# Altium footprint library NSC Audio.PcbLib: 147 footprints (part 7 of 10)
Each footprint in its own frame and in the unit in brackets; x right, y up, seen from the top. Pads: shape width x height; smd on the part's side, far side on the other; paste and mask are expansions set on the pad; w line width, h text height; cw(c..) or ccw(c..) is an arc to the next point about the centre after c.
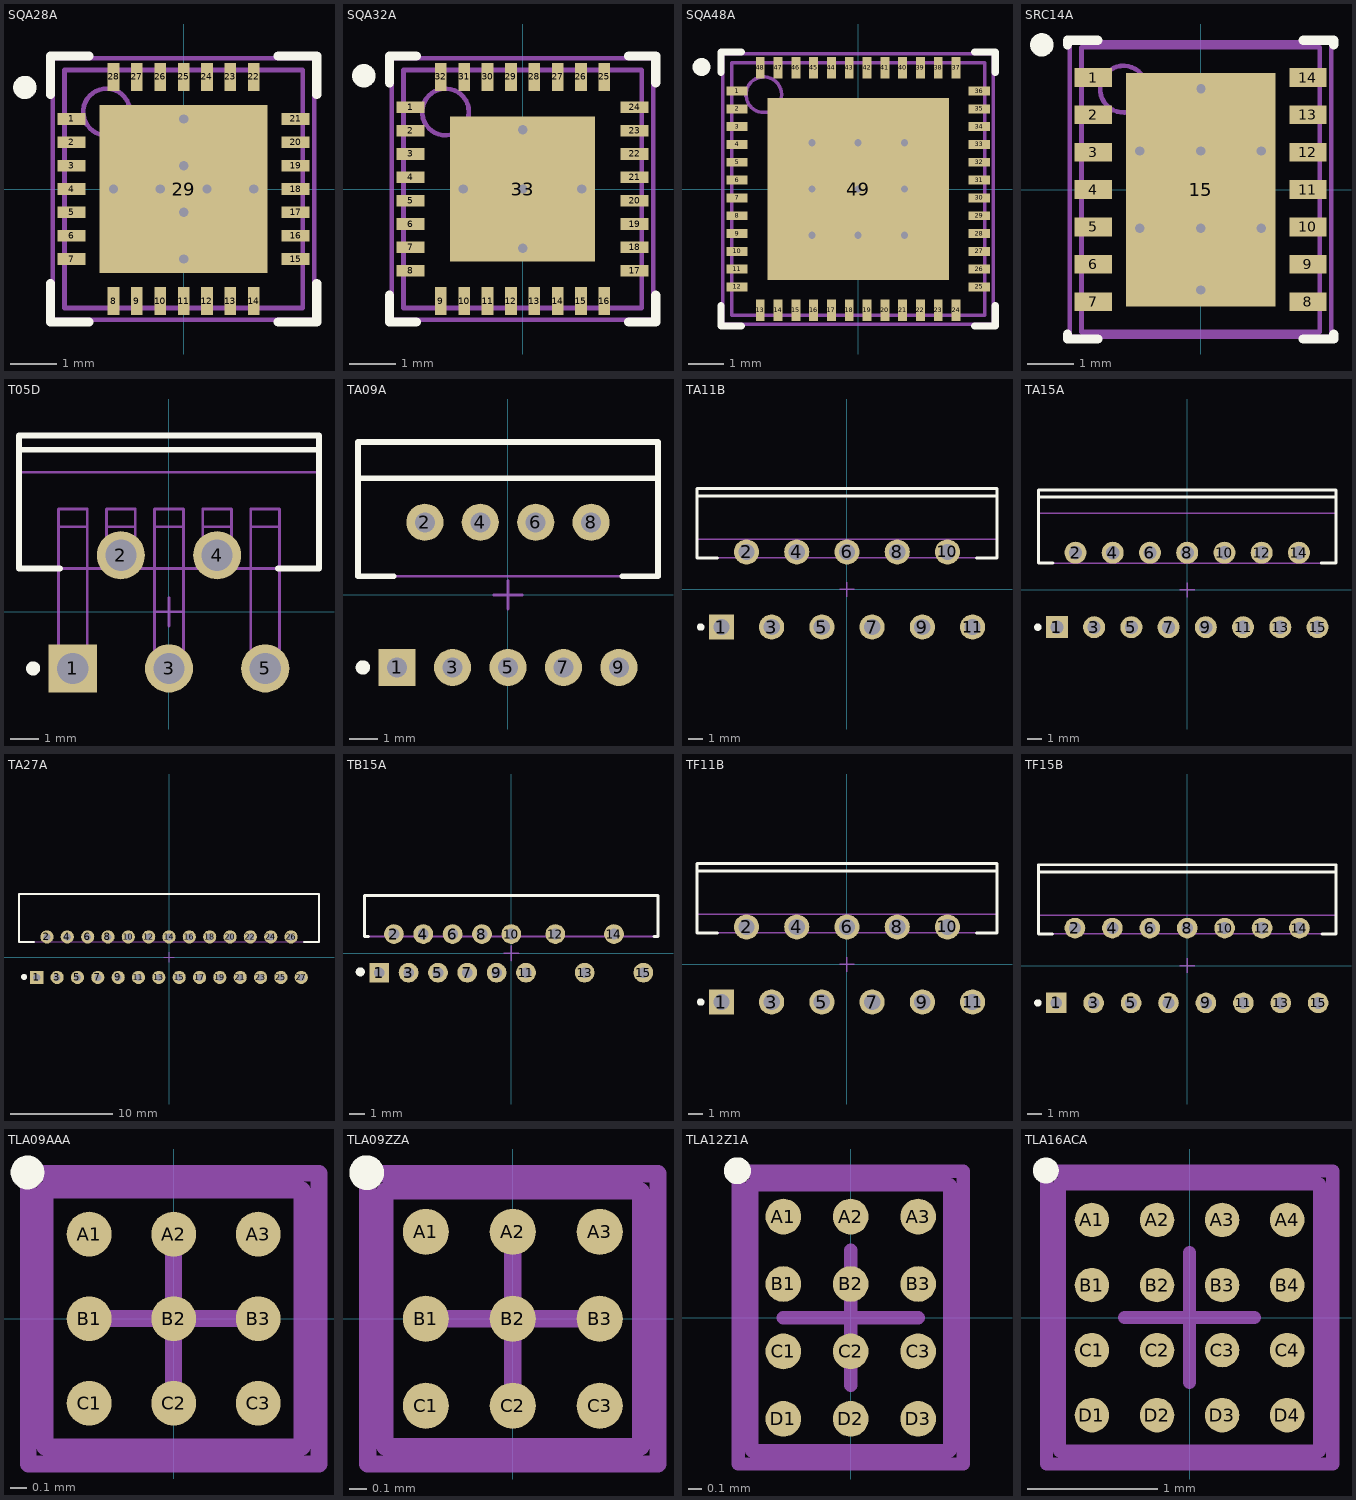
[diagram p6: the footprints below, top view; thin cyan lines are the x and y axes]

## SQA28A [mm] "QFN, 28-Leads, Body 5x5mm, Pitch 0.5mm, NSC Recommended"
height 0.8
pads (29):
  rect 0.6x0.25 smd paste-0.125 mask+0.051: 1(-2.4,1.5) 2(-2.4,1) 3(-2.4,0.5) 4(-2.4,0) 5(-2.4,-0.5) 6(-2.4,-1) 7(-2.4,-1.5) 15(2.4,-1.5) 16(2.4,-1) 17(2.4,-0.5) 18(2.4,0) 19(2.4,0.5) 20(2.4,1) 21(2.4,1.5)
  rect 0.25x0.6 smd paste-0.125 mask+0.051: 8(-1.5,-2.4) 9(-1,-2.4) 10(-0.5,-2.4) 11(0,-2.4) 12(0.5,-2.4) 13(1,-2.4) 14(1.5,-2.4) 22(1.5,2.4) 23(1,2.4) 24(0.5,2.4) 25(0,2.4) 26(-0.5,2.4) 27(-1,2.4) 28(-1.5,2.4)
  rect 3.6x3.6 smd paste-1.8 mask+0.051: 29(0,0)
via -1.5,0 diameter 0.5 hole 0.2
via 0,-1.5 diameter 0.5 hole 0.2
via 0,1.5 diameter 0.5 hole 0.2
via 1.5,0 diameter 0.5 hole 0.2
via -0.5,0 diameter 0.5 hole 0.2
via 0.5,0 diameter 0.5 hole 0.2
via 0,-0.5 diameter 0.5 hole 0.2
via 0,0.5 diameter 0.5 hole 0.2
Top Overlay:
  circle w0.25: c-3.4,2.175 r0.125
  lines w0.2: -2.85,-2.025 -2.85,-2.85 -2.025,-2.85 ; -2.85,2.025 -2.85,2.85 -2.025,2.85 ; 2.025,-2.85 2.85,-2.85 2.85,-2.025 ; 2.025,2.85 2.85,2.85 2.85,2.025
Top Paste:
  rectangle: 0.15,-1.7 1.7,-0.15
  region: -0.15,-0.15 -1.7,-0.15 -1.7,-1.7 -0.15,-1.7
  region: -0.15,1.7 -1.7,1.7 -1.7,0.15 -0.15,0.15
  rectangle: 0.15,0.15 1.7,1.7
  region: -1.375,-2.9 -1.375,-2.2 -1.625,-2.2 -1.625,-2.9
  region: -0.875,-2.9 -0.875,-2.2 -1.125,-2.2 -1.125,-2.9
  region: -0.375,-2.9 -0.375,-2.2 -0.625,-2.2 -0.625,-2.9
  region: 0.125,-2.9 0.125,-2.2 -0.125,-2.2 -0.125,-2.9
  region: 0.625,-2.9 0.625,-2.2 0.375,-2.2 0.375,-2.9
  region: 1.125,-2.9 1.125,-2.2 0.875,-2.2 0.875,-2.9
  region: 1.625,-2.9 1.625,-2.2 1.375,-2.2 1.375,-2.9
  region: -1.625,2.9 -1.625,2.2 -1.375,2.2 -1.375,2.9
  region: -1.125,2.9 -1.125,2.2 -0.875,2.2 -0.875,2.9
  region: -0.625,2.9 -0.625,2.2 -0.375,2.2 -0.375,2.9
  region: -0.125,2.9 -0.125,2.2 0.125,2.2 0.125,2.9
  region: 0.375,2.9 0.375,2.2 0.625,2.2 0.625,2.9
  region: 0.875,2.9 0.875,2.2 1.125,2.2 1.125,2.9
  region: 1.375,2.9 1.375,2.2 1.625,2.2 1.625,2.9
  region: 2.9,1.625 2.2,1.625 2.2,1.375 2.9,1.375
  region: 2.9,1.125 2.2,1.125 2.2,0.875 2.9,0.875
  region: 2.9,0.625 2.2,0.625 2.2,0.375 2.9,0.375
  region: 2.9,0.125 2.2,0.125 2.2,-0.125 2.9,-0.125
  region: 2.9,-0.375 2.2,-0.375 2.2,-0.625 2.9,-0.625
  region: 2.9,-0.875 2.2,-0.875 2.2,-1.125 2.9,-1.125
  region: 2.9,-1.375 2.2,-1.375 2.2,-1.625 2.9,-1.625
  rectangle: -2.9,-1.625 -2.2,-1.375
  rectangle: -2.9,-1.125 -2.2,-0.875
  rectangle: -2.9,-0.625 -2.2,-0.375
  rectangle: -2.9,-0.125 -2.2,0.125
  rectangle: -2.9,0.375 -2.2,0.625
  rectangle: -2.9,0.875 -2.2,1.125
  rectangle: -2.9,1.375 -2.2,1.625
Mechanical 13:
  circle w0.1: c-1.65,1.65 r0.5
  lines w0.1: -2.55,-2.55 -2.55,2.55 2.55,2.55 2.55,-2.55 -2.55,-2.55
Mechanical 15:
  lines w0.1: -0.5,0 0.5,0 ; 0,-0.5 0,0.5 ; -2.8,-2.8 -2.8,2.8 2.8,2.8 2.8,-2.8 -2.8,-2.8
3D body: height 0.8, standoff 0, extent -2.55,-2.55 2.55,2.55

## SQA32A [mm] "QFN, 32-Leads, Body 5x5mm, Pitch 0.5mm, NSC Recommended"
height 0.8
pads (33):
  rect 0.6x0.25 smd paste-0.125 mask+0.051: 1(-2.4,1.75) 2(-2.4,1.25) 3(-2.4,0.75) 4(-2.4,0.25) 5(-2.4,-0.25) 6(-2.4,-0.75) 7(-2.4,-1.25) 8(-2.4,-1.75) 17(2.4,-1.75) 18(2.4,-1.25) 19(2.4,-0.75) 20(2.4,-0.25) 21(2.4,0.25) 22(2.4,0.75) 23(2.4,1.25) 24(2.4,1.75)
  rect 0.25x0.6 smd paste-0.125 mask+0.051: 9(-1.75,-2.4) 10(-1.25,-2.4) 11(-0.75,-2.4) 12(-0.25,-2.4) 13(0.25,-2.4) 14(0.75,-2.4) 15(1.25,-2.4) 16(1.75,-2.4) 25(1.75,2.4) 26(1.25,2.4) 27(0.75,2.4) 28(0.25,2.4) 29(-0.25,2.4) 30(-0.75,2.4) 31(-1.25,2.4) 32(-1.75,2.4)
  rect 3.1x3.1 smd paste-1.55 mask+0.051: 33(0,0)
via 0,1.27 diameter 0.5 hole 0.2
via -1.27,0 diameter 0.5 hole 0.2
via 0,0 diameter 0.5 hole 0.2
via 1.27,0 diameter 0.5 hole 0.2
via 0,-1.27 diameter 0.5 hole 0.2
Top Overlay:
  circle w0.25: c-3.4,2.425 r0.125
  lines w0.2: -2.85,-2.275 -2.85,-2.85 -2.275,-2.85 ; -2.85,2.275 -2.85,2.85 -2.275,2.85 ; 2.275,-2.85 2.85,-2.85 2.85,-2.275 ; 2.275,2.85 2.85,2.85 2.85,2.275
Top Paste:
  region: 1.625,2.9 1.625,2.2 1.875,2.2 1.875,2.9
  region: 1.125,2.9 1.125,2.2 1.375,2.2 1.375,2.9
  region: 0.625,2.9 0.625,2.2 0.875,2.2 0.875,2.9
  region: 0.125,2.9 0.125,2.2 0.375,2.2 0.375,2.9
  region: -0.375,2.9 -0.375,2.2 -0.125,2.2 -0.125,2.9
  region: -0.875,2.9 -0.875,2.2 -0.625,2.2 -0.625,2.9
  region: -1.375,2.9 -1.375,2.2 -1.125,2.2 -1.125,2.9
  region: -1.875,2.9 -1.875,2.2 -1.625,2.2 -1.625,2.9
  region: 2.9,-1.625 2.2,-1.625 2.2,-1.875 2.9,-1.875
  region: 2.9,-1.125 2.2,-1.125 2.2,-1.375 2.9,-1.375
  region: 2.9,-0.625 2.2,-0.625 2.2,-0.875 2.9,-0.875
  region: 2.9,-0.125 2.2,-0.125 2.2,-0.375 2.9,-0.375
  region: 2.9,0.375 2.2,0.375 2.2,0.125 2.9,0.125
  region: 2.9,0.875 2.2,0.875 2.2,0.625 2.9,0.625
  region: 2.9,1.375 2.2,1.375 2.2,1.125 2.9,1.125
  region: 2.9,1.875 2.2,1.875 2.2,1.625 2.9,1.625
  region: -1.625,-2.9 -1.625,-2.2 -1.875,-2.2 -1.875,-2.9
  region: -1.125,-2.9 -1.125,-2.2 -1.375,-2.2 -1.375,-2.9
  region: -0.625,-2.9 -0.625,-2.2 -0.875,-2.2 -0.875,-2.9
  region: -0.125,-2.9 -0.125,-2.2 -0.375,-2.2 -0.375,-2.9
  region: 0.375,-2.9 0.375,-2.2 0.125,-2.2 0.125,-2.9
  region: 0.875,-2.9 0.875,-2.2 0.625,-2.2 0.625,-2.9
  region: 1.375,-2.9 1.375,-2.2 1.125,-2.2 1.125,-2.9
  region: 1.875,-2.9 1.875,-2.2 1.625,-2.2 1.625,-2.9
  rectangle: -2.9,-1.875 -2.2,-1.625
  rectangle: -2.9,-1.375 -2.2,-1.125
  rectangle: -2.9,-0.875 -2.2,-0.625
  rectangle: -2.9,-0.375 -2.2,-0.125
  rectangle: -2.9,0.125 -2.2,0.375
  rectangle: -2.9,0.625 -2.2,0.875
  rectangle: -2.9,1.125 -2.2,1.375
  rectangle: -2.9,1.625 -2.2,1.875
  rectangle: 0.1,0.1 1.4,1.4
  region: -0.1,1.4 -1.4,1.4 -1.4,0.1 -0.1,0.1
  region: -0.1,-0.1 -1.4,-0.1 -1.4,-1.4 -0.1,-1.4
  rectangle: 0.1,-1.4 1.4,-0.1
Mechanical 13:
  circle w0.1: c-1.65,1.65 r0.5
  lines w0.1: -2.55,-2.55 -2.55,2.55 2.55,2.55 2.55,-2.55 -2.55,-2.55
Mechanical 15:
  lines w0.1: -0.5,0 0.5,0 ; 0,-0.5 0,0.5 ; -2.8,-2.8 -2.8,2.8 2.8,2.8 2.8,-2.8 -2.8,-2.8
3D body: height 0.8, standoff 0, extent -2.55,-2.55 2.55,2.55

## SQA48A [mm] "QFN, 48-Leads, Body 7x7mm, Pitch 0.5mm, NSC Recommended"
height 0.8
pads (49):
  rect 0.6x0.25 smd paste-0.125 mask+0.051: 1(-3.4,2.75) 2(-3.4,2.25) 3(-3.4,1.75) 4(-3.4,1.25) 5(-3.4,0.75) 6(-3.4,0.25) 7(-3.4,-0.25) 8(-3.4,-0.75) 9(-3.4,-1.25) 10(-3.4,-1.75) 11(-3.4,-2.25) 12(-3.4,-2.75) 25(3.4,-2.75) 26(3.4,-2.25) 27(3.4,-1.75) 28(3.4,-1.25) 29(3.4,-0.75) 30(3.4,-0.25) 31(3.4,0.25) 32(3.4,0.75) 33(3.4,1.25) 34(3.4,1.75) 35(3.4,2.25) 36(3.4,2.75)
  rect 0.25x0.6 smd paste-0.125 mask+0.051: 13(-2.75,-3.4) 14(-2.25,-3.4) 15(-1.75,-3.4) 16(-1.25,-3.4) 17(-0.75,-3.4) 18(-0.25,-3.4) 19(0.25,-3.4) 20(0.75,-3.4) 21(1.25,-3.4) 22(1.75,-3.4) 23(2.25,-3.4) 24(2.75,-3.4) 37(2.75,3.4) 38(2.25,3.4) 39(1.75,3.4) 40(1.25,3.4) 41(0.75,3.4) 42(0.25,3.4) 43(-0.25,3.4) 44(-0.75,3.4) 45(-1.25,3.4) 46(-1.75,3.4) 47(-2.25,3.4) 48(-2.75,3.4)
  rect 5.1x5.1 smd paste-2.55 mask+0.051: 49(0,0)
via 0,-1.3 diameter 0.5 hole 0.2
via 1.3,-1.3 diameter 0.5 hole 0.2
via -1.3,-1.3 diameter 0.5 hole 0.2
via 0,1.3 diameter 0.5 hole 0.2
via 1.3,1.3 diameter 0.5 hole 0.2
via -1.3,1.3 diameter 0.5 hole 0.2
via -1.3,0 diameter 0.5 hole 0.2
via 1.3,0 diameter 0.5 hole 0.2
via 0,0 diameter 0.5 hole 0.2
Top Overlay:
  circle w0.25: c-4.4,3.425 r0.125
  lines w0.2: -3.85,-3.275 -3.85,-3.85 -3.275,-3.85 ; -3.85,3.275 -3.85,3.85 -3.275,3.85 ; 3.275,-3.85 3.85,-3.85 3.85,-3.275 ; 3.275,3.85 3.85,3.85 3.85,3.275
Top Paste:
  rectangle: -3.9,2.625 -3.2,2.875
  rectangle: -3.9,2.125 -3.2,2.375
  rectangle: -3.9,1.625 -3.2,1.875
  rectangle: -3.9,1.125 -3.2,1.375
  rectangle: -3.9,0.625 -3.2,0.875
  rectangle: -3.9,0.125 -3.2,0.375
  rectangle: -3.9,-0.375 -3.2,-0.125
  rectangle: -3.9,-0.875 -3.2,-0.625
  rectangle: -3.9,-1.375 -3.2,-1.125
  rectangle: -3.9,-1.875 -3.2,-1.625
  rectangle: -3.9,-2.375 -3.2,-2.125
  rectangle: -3.9,-2.875 -3.2,-2.625
  region: 2.875,-3.9 2.875,-3.2 2.625,-3.2 2.625,-3.9
  region: 2.375,-3.9 2.375,-3.2 2.125,-3.2 2.125,-3.9
  region: 1.875,-3.9 1.875,-3.2 1.625,-3.2 1.625,-3.9
  region: 1.375,-3.9 1.375,-3.2 1.125,-3.2 1.125,-3.9
  region: 0.875,-3.9 0.875,-3.2 0.625,-3.2 0.625,-3.9
  region: 0.375,-3.9 0.375,-3.2 0.125,-3.2 0.125,-3.9
  region: -0.125,-3.9 -0.125,-3.2 -0.375,-3.2 -0.375,-3.9
  region: -0.625,-3.9 -0.625,-3.2 -0.875,-3.2 -0.875,-3.9
  region: -1.125,-3.9 -1.125,-3.2 -1.375,-3.2 -1.375,-3.9
  region: -1.625,-3.9 -1.625,-3.2 -1.875,-3.2 -1.875,-3.9
  region: -2.125,-3.9 -2.125,-3.2 -2.375,-3.2 -2.375,-3.9
  region: -2.625,-3.9 -2.625,-3.2 -2.875,-3.2 -2.875,-3.9
  region: 3.9,2.875 3.2,2.875 3.2,2.625 3.9,2.625
  region: 3.9,2.375 3.2,2.375 3.2,2.125 3.9,2.125
  region: 3.9,1.875 3.2,1.875 3.2,1.625 3.9,1.625
  region: 3.9,1.375 3.2,1.375 3.2,1.125 3.9,1.125
  region: 3.9,0.875 3.2,0.875 3.2,0.625 3.9,0.625
  region: 3.9,0.375 3.2,0.375 3.2,0.125 3.9,0.125
  region: 3.9,-0.125 3.2,-0.125 3.2,-0.375 3.9,-0.375
  region: 3.9,-0.625 3.2,-0.625 3.2,-0.875 3.9,-0.875
  region: 3.9,-1.125 3.2,-1.125 3.2,-1.375 3.9,-1.375
  region: 3.9,-1.625 3.2,-1.625 3.2,-1.875 3.9,-1.875
  region: 3.9,-2.125 3.2,-2.125 3.2,-2.375 3.9,-2.375
  region: 3.9,-2.625 3.2,-2.625 3.2,-2.875 3.9,-2.875
  region: -2.875,3.9 -2.875,3.2 -2.625,3.2 -2.625,3.9
  region: -2.375,3.9 -2.375,3.2 -2.125,3.2 -2.125,3.9
  region: -1.875,3.9 -1.875,3.2 -1.625,3.2 -1.625,3.9
  region: -1.375,3.9 -1.375,3.2 -1.125,3.2 -1.125,3.9
  region: -0.875,3.9 -0.875,3.2 -0.625,3.2 -0.625,3.9
  region: -0.375,3.9 -0.375,3.2 -0.125,3.2 -0.125,3.9
  region: 0.125,3.9 0.125,3.2 0.375,3.2 0.375,3.9
  region: 0.625,3.9 0.625,3.2 0.875,3.2 0.875,3.9
  region: 1.125,3.9 1.125,3.2 1.375,3.2 1.375,3.9
  region: 1.625,3.9 1.625,3.2 1.875,3.2 1.875,3.9
  region: 2.125,3.9 2.125,3.2 2.375,3.2 2.375,3.9
  region: 2.625,3.9 2.625,3.2 2.875,3.2 2.875,3.9
  rectangle: 0.1,0.1 1.2,1.2
  rectangle: 0.1,1.4 1.2,2.5
  rectangle: 1.4,0.1 2.5,1.2
  rectangle: 1.4,1.4 2.5,2.5
  region: -1.4,2.5 -2.5,2.5 -2.5,1.4 -1.4,1.4
  region: -1.4,1.2 -2.5,1.2 -2.5,0.1 -1.4,0.1
  region: -0.1,2.5 -1.2,2.5 -1.2,1.4 -0.1,1.4
  region: -0.1,1.2 -1.2,1.2 -1.2,0.1 -0.1,0.1
  region: -2.5,-1.4 -2.5,-2.5 -1.4,-2.5 -1.4,-1.4
  region: -1.2,-1.4 -1.2,-2.5 -0.1,-2.5 -0.1,-1.4
  region: -2.5,-0.1 -2.5,-1.2 -1.4,-1.2 -1.4,-0.1
  region: -1.2,-0.1 -1.2,-1.2 -0.1,-1.2 -0.1,-0.1
  region: 1.4,-1.4 1.4,-2.5 2.5,-2.5 2.5,-1.4
  region: 0.1,-1.4 0.1,-2.5 1.2,-2.5 1.2,-1.4
  region: 1.4,-0.1 1.4,-1.2 2.5,-1.2 2.5,-0.1
  region: 0.1,-0.1 0.1,-1.2 1.2,-1.2 1.2,-0.1
Mechanical 13:
  circle w0.1: c-2.65,2.65 r0.5
  lines w0.1: -3.55,-3.55 3.55,-3.55 3.55,3.55 -3.55,3.55 -3.55,-3.55
Mechanical 15:
  lines w0.1: -0.5,0 0.5,0 ; 0,-0.5 0,0.5 ; -3.8,-3.8 3.8,-3.8 3.8,3.8 -3.8,3.8 -3.8,-3.8
3D body: height 0.8, standoff 0, extent -3.55,-3.55 3.55,3.55

## SRC14A [mm] "SON, 14-Leads, Body 6x5 mm, Pitch 0.8mm, NSC Recommended"
height 1
pads (15):
  rect 0.8x0.4 smd paste-0.2 mask+0.051: 1(-2.3,2.4) 2(-2.3,1.6) 3(-2.3,0.8) 4(-2.3,0) 5(-2.3,-0.8) 6(-2.3,-1.6) 7(-2.3,-2.4) 8(2.3,-2.4) 9(2.3,-1.6) 10(2.3,-0.8) 11(2.3,0) 12(2.3,0.8) 13(2.3,1.6) 14(2.3,2.4)
  rect 3.2x5 smd paste-1.6 mask+0.051: 15(0,0)
via 0.01,2.16 diameter 0.5 hole 0.2
via 0,-2.15 diameter 0.5 hole 0.2
via -1.3,0.825 diameter 0.5 hole 0.2
via 0,0.825 diameter 0.5 hole 0.2
via 1.3,0.825 diameter 0.5 hole 0.2
via -1.3,-0.825 diameter 0.5 hole 0.2
via 0,-0.825 diameter 0.5 hole 0.2
via 1.3,-0.825 diameter 0.5 hole 0.2
Top Overlay:
  circle w0.25: c-3.4,3.1 r0.125
  lines w0.2: -2.85,-3.2 -2.85,-3.1 ; -2.85,3.1 -2.85,3.2 ; -2.845,-3.2 -2.2,-3.2 ; -2.845,3.2 -2.2,3.2 ; 2.2,-3.2 2.845,-3.2 ; 2.2,3.2 2.845,3.2 ; 2.85,-3.2 2.85,-3.1 ; 2.85,3.1 2.85,3.2
Top Paste:
  region: 2.9,2.6 2,2.6 2,2.2 2.9,2.2
  region: 2.9,1.8 2,1.8 2,1.4 2.9,1.4
  region: 2.9,1 2,1 2,0.6 2.9,0.6
  region: 2.9,-0.6 2,-0.6 2,-1 2.9,-1
  region: 2.9,-1.4 2,-1.4 2,-1.8 2.9,-1.8
  region: 2.9,-2.2 2,-2.2 2,-2.6 2.9,-2.6
  rectangle: 2,-0.2 2.9,0.2
  region: -2,0.2 -2.9,0.2 -2.9,-0.2 -2,-0.2
  rectangle: -2.9,-2.6 -2,-2.2
  rectangle: -2.9,-1.8 -2,-1.4
  rectangle: -2.9,-1 -2,-0.6
  rectangle: -2.9,0.6 -2,1
  rectangle: -2.9,1.4 -2,1.8
  region: 1.5,0.7 0.1,0.7 0.1,-0.7 1.5,-0.7
  rectangle: -1.5,-0.7 -0.1,0.7
  region: 1.5,2.35 0.11,2.35 0.11,0.95 1.5,0.95
  rectangle: -1.5,0.95 -0.1,2.35
  region: 1.5,-0.95 0.1,-0.95 0.1,-2.35 1.5,-2.35
  rectangle: -1.5,-2.35 -0.1,-0.95
  rectangle: -2.9,2.2 -2,2.6
Mechanical 13:
  circle w0.1: c-1.65,2.15 r0.5
  lines w0.1: -2.55,-3.05 2.55,-3.05 2.55,3.05 -2.55,3.05 -2.55,-3.05
Mechanical 15:
  lines w0.1: -0.5,0 0.5,0 ; 0,-0.5 0,0.5 ; -2.8,-3.15 2.8,-3.15 2.8,3.15 -2.8,3.15 -2.8,-3.15
3D body: height 1, standoff 0, extent -2.549,-3.049 2.549,3.049

## T05D [mm] "TO, Thru-Hole, Vertical, Heatsink Mounted; 5 Bent Staggered Leads; Pitch 1.7 mm"
height 21.1
pads (5):
  rect 1.7x1.7 hole 1.1: 1(-3.4,-2)
  round 1.7 hole 1.1: 2(-1.7,2) 3(0,-2) 4(1.7,2) 5(3.4,-2)
Top Overlay:
  circle w0.25: c-4.8,-2 r0.125
  lines w0.2: -5.3,5.73 5.3,5.73 ; -3.854,1.53 -5.3,1.53 -5.3,6.23 5.3,6.23 5.3,1.53 3.854,1.53
Mechanical 13:
  lines w0.1: -5.3,4.93 5.3,4.93 ; -3.91,-1.685 -3.91,-2.315 -2.89,-2.315 -2.89,-1.685 ; -3.91,-1.685 -2.89,-1.685 ; -3.91,-1.685 -3.91,3.005 ; -3.91,3.005 -2.89,3.005 ; -3.91,3.005 -3.91,3.635 -2.89,3.635 -2.89,3.005 ; -2.89,-1.685 -2.89,3.005 ; -2.21,2.315 -2.21,1.685 -1.19,1.685 -1.19,2.315 ; -2.21,2.315 -1.19,2.315 ; -2.21,2.315 -2.21,3.005 ; -2.21,3.005 -1.19,3.005 ; -2.21,3.005 -2.21,3.635 -1.19,3.635 -1.19,3.005 ; -1.19,2.315 -1.19,3.005 ; -0.51,-1.685 -0.51,3.005 ; -0.51,-1.685 0.51,-1.685 ; -0.51,-1.685 -0.51,-2.315 0.51,-2.315 0.51,-1.685 ; -0.51,3.005 -0.51,3.635 0.51,3.635 0.51,3.005 ; -0.51,3.005 0.51,3.005 ; 0.51,-1.685 0.51,3.005 ; 1.19,2.315 1.19,1.685 2.21,1.685 2.21,2.315 ; 1.19,2.315 2.21,2.315 ; 1.19,2.315 1.19,3.005 ; 1.19,3.005 2.21,3.005 ; 1.19,3.005 1.19,3.635 2.21,3.635 2.21,3.005 ; 2.21,2.315 2.21,3.005 ; 2.89,-1.685 2.89,3.005 ; 2.89,-1.685 2.89,-2.315 3.91,-2.315 3.91,-1.685 ; 2.89,-1.685 3.91,-1.685 ; 2.89,3.005 3.91,3.005 ; 2.89,3.005 2.89,3.635 3.91,3.635 3.91,3.005 ; 3.91,-1.685 3.91,3.005 ; -5.3,1.53 -5.3,6.23 5.3,6.23 5.3,1.53 -5.3,1.53
Mechanical 15:
  lines w0.1: -0.5,0 0.5,0 ; 0,-0.5 0,0.5
3D body: height 5.6, standoff 1.95, extent -3.909,3.006 -2.891,3.634
3D body: height 1.72, standoff 0.63, extent 2.891,-1.684 3.909,1.529
3D body: height 1.72, standoff 0.63, extent -0.509,-1.684 0.509,1.529
3D body: height 1.72, standoff 0.63, extent -3.909,-1.684 -2.891,1.529
3D body: height 0.93, standoff 0, extent 2.891,-2.314 3.909,-1.686
3D body: height 0.93, standoff 0, extent -0.509,-2.314 0.509,-1.686
3D body: height 0.93, standoff 0, extent -3.909,-2.314 -2.891,-1.686
3D body: height 2.26, standoff 1.42, extent -0.509,1.531 0.509,3.004
3D body: height 2.26, standoff 1.42, extent -3.909,1.531 -2.891,3.004
3D body: height 2.26, standoff 1.42, extent 2.891,1.531 3.909,3.004
3D body: height 2.26, standoff 0.63, extent 1.191,2.316 2.209,3.004
3D body: height 2.26, standoff 0.63, extent -2.209,2.316 -1.191,3.004
3D body: height 0.93, standoff 0, extent -2.209,1.686 -1.191,2.314
3D body: height 0.93, standoff 0, extent 1.191,1.686 2.209,2.314
3D body: height 5.6, standoff 1.95, extent 2.891,3.006 3.909,3.634
3D body: height 5.6, standoff 1.95, extent 1.191,3.006 2.209,3.634
3D body: height 5.6, standoff 1.95, extent -0.509,3.006 0.509,3.634
3D body: height 5.6, standoff 1.95, extent -2.209,3.006 -1.191,3.634
3D body: height 14.5, standoff 5.6, extent -5.35,1.48 5.35,6.28
3D body: height 21.1, standoff 14.5, extent -5.299,4.931 5.299,6.229

## TA09A [mm] "TO, Thru-Hole, Vertical, Heatsink Mounted; 9 Bent Staggered Leads; Pitch 0.97 mm"
height 20.9
pads (9):
  rect 1.3x1.3 hole 0.7: 1(-3.88,-2.54)
  round 1.3 hole 0.7: 2(-2.91,2.54) 3(-1.94,-2.54) 4(-0.97,2.54) 5(0,-2.54) 6(0.97,2.54) 7(1.94,-2.54) 8(2.91,2.54) 9(3.88,-2.54)
Top Overlay:
  circle w0.25: c-5.08,-2.54 r0.125
  lines w0.2: -5.25,4.08 5.25,4.08 ; -4,0.65 -5.25,0.65 -5.25,5.35 5.25,5.35 5.25,0.65 4,0.65
Mechanical 13:
  lines w0.1: -5.25,4.08 5.25,4.08 ; -5.25,0.65 5.25,0.65 5.25,5.35 -5.25,5.35 -5.25,0.65
Mechanical 15:
  lines w0.1: -0.5,0 0.5,0 ; 0,-0.5 0,0.5
3D body: height 14.35, standoff 5.61, extent -5.249,0.651 5.249,5.349
3D body: height 20.9, standoff 14.35, extent -5.249,4.081 5.249,5.349

## TA11B [mm] "TO, Thru-Hole, Vertical, Heatsink Mounted; 11 Bent Staggered Leads; Pitch 1.7 mm"
height 21
pads (11):
  rect 1.7x1.7 hole 1.1: 1(-8.5,-2.54)
  round 1.7 hole 1.1: 2(-6.8,2.54) 3(-5.1,-2.54) 4(-3.4,2.54) 5(-1.7,-2.54) 6(0,2.54) 7(1.7,-2.54) 8(3.4,2.54) 9(5.1,-2.54) 10(6.8,2.54) 11(8.5,-2.54)
Top Overlay:
  circle w0.25: c-9.9,-2.54 r0.125
  lines w0.2: -10.15,6.34 10.15,6.34 ; -8.754,2.14 -10.15,2.14 -10.15,6.84 10.15,6.84 10.15,2.14 8.774,2.14
Mechanical 13:
  lines w0.1: -10.15,3.41 10.15,3.41 ; -10.15,2.14 10.15,2.14 10.15,6.84 -10.15,6.84 -10.15,2.14
Mechanical 15:
  lines w0.1: -0.5,0 0.5,0 ; 0,-0.5 0,0.5
3D body: height 21, standoff 14, extent -10.149,3.411 10.149,6.839
3D body: height 14, standoff 3.3, extent -10.149,2.141 10.149,6.839

## TA15A [mm] "TO, Thru-Hole, Vertical, Heatsink Mounted; 15 Bent Staggered Leads; Pitch 1.27 mm"
height 21
pads (15):
  rect 1.5x1.5 hole 0.9: 1(-8.89,-2.54)
  round 1.5 hole 0.9: 2(-7.62,2.54) 3(-6.35,-2.54) 4(-5.08,2.54) 5(-3.81,-2.54) 6(-2.54,2.54) 7(-1.27,-2.54) 8(0,2.54) 9(1.27,-2.54) 10(2.54,2.54) 11(3.81,-2.54) 12(5.08,2.54) 13(6.35,-2.54) 14(7.62,2.54) 15(8.89,-2.54)
Top Overlay:
  circle w0.25: c-10.19,-2.54 r0.125
  lines w0.2: -10.15,6.33 10.15,6.33 ; -9.144,1.83 -10.15,1.83 -10.15,6.83 10.15,6.83 10.15,1.83 9.144,1.83
Mechanical 13:
  lines w0.1: -10.15,5.23 10.15,5.23 ; -10.15,1.83 -10.15,6.83 10.15,6.83 10.15,1.83 -10.15,1.83
Mechanical 15:
  lines w0.1: -0.5,0 0.5,0 ; 0,-0.5 0,0.5
3D body: height 14.19, standoff 3.37, extent -10.2,1.78 10.2,6.88
3D body: height 21, standoff 14.19, extent -10.149,5.231 10.149,6.829

## TA27A [mm] "In-Line; 27 Zig-Zag Leads; Body 29.2 x 4.5mm; Pitch 1mm"
height 19.3
pads (27):
  rect 1.3x1.3 hole 0.7: 1(-13,-1.99)
  round 1.3 hole 0.7: 2(-12,1.99) 3(-11,-1.99) 4(-10,1.99) 5(-9,-1.99) 6(-8,1.99) 7(-7,-1.99) 8(-6,1.99) 9(-5,-1.99) 10(-4,1.99) 11(-3,-1.99) 12(-2,1.99) 13(-1,-1.99) 14(0,1.99) 15(1,-1.99) 16(2,1.99) 17(3,-1.99) 18(4,1.99) 19(5,-1.99) 20(6,1.99) 21(7,-1.99) 22(8,1.99) 23(9,-1.99) 24(10,1.99) 25(11,-1.99) 26(12,1.99) 27(13,-1.99)
Top Overlay:
  circle w0.3: c-14.25,-1.94 r0.15
  lines w0.2: -13.3,1.51 -14.75,1.51 -14.75,6.21 14.75,6.21 14.75,1.51 13.3,1.51
Mechanical 13:
  lines w0.1: -14.75,1.51 -14.75,6.21 14.75,6.21 14.75,1.51 -14.75,1.51
Mechanical 15:
  lines w0.1: -0.5,0 0.5,0 ; 0,-0.5 0,0.5
3D body: height 19.3, standoff 3.35, extent -14.749,1.511 14.749,6.209

## TB15A [mm] "In-Line; 15 Zig-Zag Leads; Body 19 x 2.54mm; Pitch 0.965mm"
height 15.5
pads (15):
  rect 1.3x1.3 hole 0.7: 1(-8.685,-1.27)
  round 1.3 hole 0.7: 2(-7.72,1.27) 3(-6.755,-1.27) 4(-5.79,1.27) 5(-4.825,-1.27) 6(-3.86,1.27) 7(-2.895,-1.27) 8(-1.93,1.27) 9(-0.965,-1.27) 10(0,1.27) 11(0.965,-1.27) 12(2.895,1.27) 13(4.825,-1.27) 14(6.755,1.27) 15(8.685,-1.27)
Top Overlay:
  circle w0.3: c-9.935,-1.22 r0.15
  lines w0.2: -9.385,1.11 -9.65,1.11 -9.65,3.81 9.65,3.81 9.65,1.11 9.385,1.11
Mechanical 13:
  lines w0.1: -9.65,1.11 9.65,1.11 9.65,3.81 -9.65,3.81 -9.65,1.11
Mechanical 15:
  lines w0.1: -0.5,0 0.5,0 ; 0,-0.5 0,0.5
3D body: height 15.5, standoff 3.75, extent -9.649,1.111 9.649,3.809

## TF11B [mm] "TO, Thru-Hole, Vertical, Heatsink Mounted; 11 Bent Staggered Leads; Pitch 1.7 mm"
height 23
pads (11):
  rect 1.7x1.7 hole 1.1: 1(-8.5,-2.54)
  round 1.7 hole 1.1: 2(-6.8,2.54) 3(-5.1,-2.54) 4(-3.4,2.54) 5(-1.7,-2.54) 6(0,2.54) 7(1.7,-2.54) 8(3.4,2.54) 9(5.1,-2.54) 10(6.8,2.54) 11(8.5,-2.54)
Top Overlay:
  circle w0.25: c-9.9,-2.54 r0.125
  lines w0.2: -10.15,6.34 10.15,6.34 ; -8.754,2.14 -10.15,2.14 -10.15,6.84 10.15,6.84 10.15,2.14 8.774,2.14
Mechanical 13:
  lines w0.1: -10.15,3.41 10.15,3.41 ; -10.15,2.14 10.15,2.14 10.15,6.84 -10.15,6.84 -10.15,2.14
Mechanical 15:
  lines w0.1: -0.5,0 0.5,0 ; 0,-0.5 0,0.5
3D body: height 23, standoff 14, extent -10.149,3.411 10.149,6.839
3D body: height 14, standoff 3.3, extent -10.149,2.141 10.149,6.839

## TF15B [mm] "TO, Thru-Hole, Vertical, Heatsink Mounted; 15 Bent Staggered Leads; Pitch 1.27 mm"
height 23
pads (15):
  rect 1.4x1.4 hole 0.8: 1(-8.89,-2.54)
  round 1.4 hole 0.8: 2(-7.62,2.54) 3(-6.35,-2.54) 4(-5.08,2.54) 5(-3.81,-2.54) 6(-2.54,2.54) 7(-1.27,-2.54) 8(0,2.54) 9(1.27,-2.54) 10(2.54,2.54) 11(3.81,-2.54) 12(5.08,2.54) 13(6.35,-2.54) 14(7.62,2.54) 15(8.89,-2.54)
Top Overlay:
  circle w0.25: c-10.14,-2.54 r0.125
  lines w0.2: -10.1,6.34 10.1,6.34 ; -9.144,2.14 -10.1,2.14 -10.1,6.84 10.1,6.84 10.1,2.14 9.144,2.14
Mechanical 13:
  lines w0.1: -10.1,3.41 10.1,3.41 ; -10.1,2.14 10.1,2.14 10.1,6.84 -10.1,6.84 -10.1,2.14
Mechanical 15:
  lines w0.1: -0.5,0 0.5,0 ; 0,-0.5 0,0.5
3D body: height 14, standoff 3.3, extent -10.15,2.09 10.15,6.89
3D body: height 23, standoff 14, extent -10.099,3.411 10.099,6.839

## TLA09AAA [mm] "Micro SMD, 9-Leads, Body 1.52x1.52mm, Pitch 0.5mm, NSC Recommended"
height 0.68
pads (9):
  round 0.265 smd paste-0.132 mask+0.05: A1(-0.5,0.5) A2(0,0.5) A3(0.5,0.5) B1(-0.5,0) B2(0,0) B3(0.5,0) C1(-0.5,-0.5) C2(0,-0.5) C3(0.5,-0.5)
Top Overlay:
  circle w0.1: c-0.865,0.865 r0.05
Top Paste:
  circle w0.05: c0.075,0.075 r0.025
  circle w0.05: c-0.075,-0.075 r0.025
  circle w0.05: c-0.075,0.075 r0.025
  circle w0.05: c0.075,-0.075 r0.025
  circle w0.05: c0.45,-0.45 r0.025
  circle w0.05: c0.6,-0.6 r0.025
  circle w0.05: c0.45,-0.6 r0.025
  circle w0.05: c0.6,-0.45 r0.025
  circle w0.05: c0.45,0.45 r0.025
  circle w0.05: c0.6,0.6 r0.025
  circle w0.05: c0.6,0.45 r0.025
  circle w0.05: c0.45,0.6 r0.025
  circle w0.05: c-0.45,0.45 r0.025
  circle w0.05: c-0.6,0.6 r0.025
  circle w0.05: c-0.45,0.6 r0.025
  circle w0.05: c-0.6,0.45 r0.025
  circle w0.05: c-0.45,-0.45 r0.025
  circle w0.05: c-0.6,-0.6 r0.025
  circle w0.05: c-0.6,-0.45 r0.025
  circle w0.05: c-0.45,-0.6 r0.025
  circle w0.05: c-0.45,-0.075 r0.025
  circle w0.05: c-0.6,0.075 r0.025
  circle w0.05: c-0.45,0.075 r0.025
  circle w0.05: c-0.6,-0.075 r0.025
  circle w0.05: c0.075,-0.45 r0.025
  circle w0.05: c-0.075,-0.6 r0.025
  circle w0.05: c-0.075,-0.45 r0.025
  circle w0.05: c0.075,-0.6 r0.025
  circle w0.05: c0.45,0.075 r0.025
  circle w0.05: c0.6,-0.075 r0.025
  circle w0.05: c0.45,-0.075 r0.025
  circle w0.05: c0.6,0.075 r0.025
  circle w0.05: c-0.075,0.45 r0.025
  circle w0.05: c0.075,0.6 r0.025
  circle w0.05: c0.075,0.45 r0.025
  circle w0.05: c-0.075,0.6 r0.025
  rectangle: -0.075,-0.125 0.075,-0.075
  region: -0.125,0.075 -0.125,-0.075 -0.075,-0.075 -0.075,0.075
  region: 0.075,0.125 -0.075,0.125 -0.075,0.075 0.075,0.075
  region: 0.125,-0.075 0.125,0.075 0.075,0.075 0.075,-0.075
  region: -0.075,0.075 -0.075,-0.075 0.075,-0.075 0.075,0.075
  region: 0.6,-0.45 0.45,-0.45 0.45,-0.6 0.6,-0.6
  rectangle: 0.45,-0.45 0.6,-0.4
  region: 0.6,-0.45 0.6,-0.6 0.65,-0.6 0.65,-0.45
  region: 0.6,-0.6 0.45,-0.6 0.45,-0.65 0.6,-0.65
  region: 0.45,-0.6 0.45,-0.45 0.4,-0.45 0.4,-0.6
  region: 0.45,0.6 0.45,0.45 0.6,0.45 0.6,0.6
  region: 0.45,0.45 0.45,0.6 0.4,0.6 0.4,0.45
  rectangle: 0.45,0.6 0.6,0.65
  region: 0.6,0.6 0.6,0.45 0.65,0.45 0.65,0.6
  region: 0.6,0.45 0.45,0.45 0.45,0.4 0.6,0.4
  rectangle: -0.6,0.45 -0.45,0.6
  region: -0.45,0.45 -0.6,0.45 -0.6,0.4 -0.45,0.4
  region: -0.6,0.45 -0.6,0.6 -0.65,0.6 -0.65,0.45
  rectangle: -0.6,0.6 -0.45,0.65
  region: -0.45,0.6 -0.45,0.45 -0.4,0.45 -0.4,0.6
  region: -0.45,-0.6 -0.45,-0.45 -0.6,-0.45 -0.6,-0.6
  region: -0.45,-0.45 -0.45,-0.6 -0.4,-0.6 -0.4,-0.45
  region: -0.45,-0.6 -0.6,-0.6 -0.6,-0.65 -0.45,-0.65
  region: -0.6,-0.6 -0.6,-0.45 -0.65,-0.45 -0.65,-0.6
  rectangle: -0.6,-0.45 -0.45,-0.4
  rectangle: -0.6,-0.075 -0.45,0.075
  region: -0.45,-0.075 -0.6,-0.075 -0.6,-0.125 -0.45,-0.125
  region: -0.6,-0.075 -0.6,0.075 -0.65,0.075 -0.65,-0.075
  rectangle: -0.6,0.075 -0.45,0.125
  region: -0.45,0.075 -0.45,-0.075 -0.4,-0.075 -0.4,0.075
  region: 0.075,-0.6 0.075,-0.45 -0.075,-0.45 -0.075,-0.6
  region: 0.075,-0.45 0.075,-0.6 0.125,-0.6 0.125,-0.45
  region: 0.075,-0.6 -0.075,-0.6 -0.075,-0.65 0.075,-0.65
  region: -0.075,-0.6 -0.075,-0.45 -0.125,-0.45 -0.125,-0.6
  rectangle: -0.075,-0.45 0.075,-0.4
  region: 0.6,0.075 0.45,0.075 0.45,-0.075 0.6,-0.075
  rectangle: 0.45,0.075 0.6,0.125
  region: 0.6,0.075 0.6,-0.075 0.65,-0.075 0.65,0.075
  region: 0.6,-0.075 0.45,-0.075 0.45,-0.125 0.6,-0.125
  region: 0.45,-0.075 0.45,0.075 0.4,0.075 0.4,-0.075
  region: -0.075,0.6 -0.075,0.45 0.075,0.45 0.075,0.6
  region: -0.075,0.45 -0.075,0.6 -0.125,0.6 -0.125,0.45
  rectangle: -0.075,0.6 0.075,0.65
  region: 0.075,0.6 0.075,0.45 0.125,0.45 0.125,0.6
  region: 0.075,0.45 -0.075,0.45 -0.075,0.4 0.075,0.4
Mechanical 13:
  lines w0.1: -0.76,-0.76 -0.76,0.76 0.76,0.76 0.76,-0.76 -0.76,-0.76
Mechanical 15:
  lines w0.1: -0.5,0 0.5,0 ; 0,-0.5 0,0.5 ; -0.86,-0.86 -0.86,0.86 0.86,0.86 0.86,-0.86 -0.86,-0.86
3D body: height 0.68, standoff 0, extent -0.759,-0.759 0.759,0.759

## TLA09ZZA [mm] "Micro SMD, 9-Leads, Body 1.47x1.47mm, Pitch 0.5mm, NSC Recommended"
height 0.68
pads (9):
  round 0.265 smd paste-0.132 mask+0.05: A1(-0.5,0.5) A2(0,0.5) A3(0.5,0.5) B1(-0.5,0) B2(0,0) B3(0.5,0) C1(-0.5,-0.5) C2(0,-0.5) C3(0.5,-0.5)
Top Overlay:
  circle w0.1: c-0.84,0.84 r0.05
Top Paste:
  circle w0.05: c0.075,-0.6 r0.025
  circle w0.05: c-0.075,-0.45 r0.025
  circle w0.05: c-0.075,-0.6 r0.025
  circle w0.05: c0.075,-0.45 r0.025
  circle w0.05: c-0.6,-0.075 r0.025
  circle w0.05: c-0.45,0.075 r0.025
  circle w0.05: c-0.6,0.075 r0.025
  circle w0.05: c-0.45,-0.075 r0.025
  circle w0.05: c-0.075,0.6 r0.025
  circle w0.05: c0.075,0.45 r0.025
  circle w0.05: c0.075,0.6 r0.025
  circle w0.05: c-0.075,0.45 r0.025
  circle w0.05: c0.6,0.075 r0.025
  circle w0.05: c0.45,-0.075 r0.025
  circle w0.05: c0.6,-0.075 r0.025
  circle w0.05: c0.45,0.075 r0.025
  circle w0.05: c-0.45,0.45 r0.025
  circle w0.05: c-0.6,0.6 r0.025
  circle w0.05: c-0.45,0.6 r0.025
  circle w0.05: c-0.6,0.45 r0.025
  circle w0.05: c-0.45,-0.45 r0.025
  circle w0.05: c-0.6,-0.6 r0.025
  circle w0.05: c-0.6,-0.45 r0.025
  circle w0.05: c-0.45,-0.6 r0.025
  circle w0.05: c0.45,-0.45 r0.025
  circle w0.05: c0.6,-0.6 r0.025
  circle w0.05: c0.45,-0.6 r0.025
  circle w0.05: c0.6,-0.45 r0.025
  circle w0.05: c0.45,0.45 r0.025
  circle w0.05: c0.6,0.6 r0.025
  circle w0.05: c0.6,0.45 r0.025
  circle w0.05: c0.45,0.6 r0.025
  circle w0.05: c0.075,-0.075 r0.025
  circle w0.05: c-0.075,0.075 r0.025
  circle w0.05: c-0.075,-0.075 r0.025
  circle w0.05: c0.075,0.075 r0.025
  rectangle: -0.075,-0.45 0.075,-0.4
  region: -0.075,-0.6 -0.075,-0.45 -0.125,-0.45 -0.125,-0.6
  region: 0.075,-0.6 -0.075,-0.6 -0.075,-0.65 0.075,-0.65
  region: 0.075,-0.45 0.075,-0.6 0.125,-0.6 0.125,-0.45
  region: 0.075,-0.6 0.075,-0.45 -0.075,-0.45 -0.075,-0.6
  region: -0.45,0.075 -0.45,-0.075 -0.4,-0.075 -0.4,0.075
  rectangle: -0.6,0.075 -0.45,0.125
  region: -0.6,-0.075 -0.6,0.075 -0.65,0.075 -0.65,-0.075
  region: -0.45,-0.075 -0.6,-0.075 -0.6,-0.125 -0.45,-0.125
  rectangle: -0.6,-0.075 -0.45,0.075
  region: 0.075,0.45 -0.075,0.45 -0.075,0.4 0.075,0.4
  region: 0.075,0.6 0.075,0.45 0.125,0.45 0.125,0.6
  rectangle: -0.075,0.6 0.075,0.65
  region: -0.075,0.45 -0.075,0.6 -0.125,0.6 -0.125,0.45
  region: -0.075,0.6 -0.075,0.45 0.075,0.45 0.075,0.6
  region: 0.45,-0.075 0.45,0.075 0.4,0.075 0.4,-0.075
  region: 0.6,-0.075 0.45,-0.075 0.45,-0.125 0.6,-0.125
  region: 0.6,0.075 0.6,-0.075 0.65,-0.075 0.65,0.075
  rectangle: 0.45,0.075 0.6,0.125
  region: 0.6,0.075 0.45,0.075 0.45,-0.075 0.6,-0.075
  rectangle: -0.6,0.45 -0.45,0.6
  region: -0.45,0.45 -0.6,0.45 -0.6,0.4 -0.45,0.4
  region: -0.6,0.45 -0.6,0.6 -0.65,0.6 -0.65,0.45
  rectangle: -0.6,0.6 -0.45,0.65
  region: -0.45,0.6 -0.45,0.45 -0.4,0.45 -0.4,0.6
  region: -0.45,-0.6 -0.45,-0.45 -0.6,-0.45 -0.6,-0.6
  region: -0.45,-0.45 -0.45,-0.6 -0.4,-0.6 -0.4,-0.45
  region: -0.45,-0.6 -0.6,-0.6 -0.6,-0.65 -0.45,-0.65
  region: -0.6,-0.6 -0.6,-0.45 -0.65,-0.45 -0.65,-0.6
  rectangle: -0.6,-0.45 -0.45,-0.4
  region: 0.6,-0.45 0.45,-0.45 0.45,-0.6 0.6,-0.6
  rectangle: 0.45,-0.45 0.6,-0.4
  region: 0.6,-0.45 0.6,-0.6 0.65,-0.6 0.65,-0.45
  region: 0.6,-0.6 0.45,-0.6 0.45,-0.65 0.6,-0.65
  region: 0.45,-0.6 0.45,-0.45 0.4,-0.45 0.4,-0.6
  region: 0.45,0.6 0.45,0.45 0.6,0.45 0.6,0.6
  region: 0.45,0.45 0.45,0.6 0.4,0.6 0.4,0.45
  rectangle: 0.45,0.6 0.6,0.65
  region: 0.6,0.6 0.6,0.45 0.65,0.45 0.65,0.6
  region: 0.6,0.45 0.45,0.45 0.45,0.4 0.6,0.4
  region: -0.075,0.075 -0.075,-0.075 0.075,-0.075 0.075,0.075
  region: 0.125,-0.075 0.125,0.075 0.075,0.075 0.075,-0.075
  region: 0.075,0.125 -0.075,0.125 -0.075,0.075 0.075,0.075
  region: -0.125,0.075 -0.125,-0.075 -0.075,-0.075 -0.075,0.075
  rectangle: -0.075,-0.125 0.075,-0.075
Mechanical 13:
  lines w0.1: -0.735,-0.735 0.735,-0.735 0.735,0.735 -0.735,0.735 -0.735,-0.735
Mechanical 15:
  lines w0.1: -0.5,0 0.5,0 ; 0,-0.5 0,0.5 ; -0.835,-0.835 0.835,-0.835 0.835,0.835 -0.835,0.835 -0.835,-0.835
3D body: height 0.68, standoff 0, extent -0.734,-0.734 0.734,0.734

## TLA12Z1A [mm] "Micro SMD, 12-Leads, Body 1.97x1.47mm, Pitch 0.5mm, NSC Recommended"
height 0.68
pads (12):
  round 0.265 smd paste-0.132 mask+0.05: A1(-0.5,0.75) A2(0,0.75) A3(0.5,0.75) B1(-0.5,0.25) B2(0,0.25) B3(0.5,0.25) C1(-0.5,-0.25) C2(0,-0.25) C3(0.5,-0.25) D1(-0.5,-0.75) D2(0,-0.75) D3(0.5,-0.75)
Top Overlay:
  circle w0.1: c-0.84,1.09 r0.05
Top Paste:
  circle w0.05: c-0.6,0.7 r0.025
  circle w0.05: c-0.45,0.85 r0.025
  circle w0.05: c-0.6,0.85 r0.025
  circle w0.05: c-0.45,0.7 r0.025
  circle w0.05: c0.45,0.85 r0.025
  circle w0.05: c0.6,0.7 r0.025
  circle w0.05: c0.6,0.85 r0.025
  circle w0.05: c0.45,0.7 r0.025
  circle w0.05: c0.6,-0.7 r0.025
  circle w0.05: c0.45,-0.85 r0.025
  circle w0.05: c0.6,-0.85 r0.025
  circle w0.05: c0.45,-0.7 r0.025
  circle w0.05: c-0.45,-0.85 r0.025
  circle w0.05: c-0.6,-0.7 r0.025
  circle w0.05: c-0.6,-0.85 r0.025
  circle w0.05: c-0.45,-0.7 r0.025
  circle w0.05: c-0.075,0.7 r0.025
  circle w0.05: c0.075,0.85 r0.025
  circle w0.05: c0.075,0.7 r0.025
  circle w0.05: c-0.075,0.85 r0.025
  circle w0.05: c-0.45,0.175 r0.025
  circle w0.05: c-0.6,0.325 r0.025
  circle w0.05: c-0.45,0.325 r0.025
  circle w0.05: c-0.6,0.175 r0.025
  circle w0.05: c-0.45,-0.325 r0.025
  circle w0.05: c-0.6,-0.175 r0.025
  circle w0.05: c-0.45,-0.175 r0.025
  circle w0.05: c-0.6,-0.325 r0.025
  circle w0.05: c0.075,-0.7 r0.025
  circle w0.05: c-0.075,-0.85 r0.025
  circle w0.05: c-0.075,-0.7 r0.025
  circle w0.05: c0.075,-0.85 r0.025
  circle w0.05: c0.45,-0.175 r0.025
  circle w0.05: c0.6,-0.325 r0.025
  circle w0.05: c0.45,-0.325 r0.025
  circle w0.05: c0.6,-0.175 r0.025
  circle w0.05: c0.45,0.325 r0.025
  circle w0.05: c0.6,0.175 r0.025
  circle w0.05: c0.45,0.175 r0.025
  circle w0.05: c0.6,0.325 r0.025
  circle w0.05: c0.075,0.175 r0.025
  circle w0.05: c-0.075,0.325 r0.025
  circle w0.05: c-0.075,0.175 r0.025
  circle w0.05: c0.075,0.325 r0.025
  circle w0.05: c0.075,-0.325 r0.025
  circle w0.05: c-0.075,-0.175 r0.025
  circle w0.05: c-0.075,-0.325 r0.025
  circle w0.05: c0.075,-0.175 r0.025
  region: -0.45,0.85 -0.45,0.7 -0.4,0.7 -0.4,0.85
  rectangle: -0.6,0.85 -0.45,0.9
  region: -0.6,0.7 -0.6,0.85 -0.65,0.85 -0.65,0.7
  region: -0.45,0.7 -0.6,0.7 -0.6,0.65 -0.45,0.65
  rectangle: -0.6,0.7 -0.45,0.85
  region: 0.6,0.7 0.45,0.7 0.45,0.65 0.6,0.65
  region: 0.6,0.85 0.6,0.7 0.65,0.7 0.65,0.85
  rectangle: 0.45,0.85 0.6,0.9
  region: 0.45,0.7 0.45,0.85 0.4,0.85 0.4,0.7
  region: 0.45,0.85 0.45,0.7 0.6,0.7 0.6,0.85
  region: 0.45,-0.85 0.45,-0.7 0.4,-0.7 0.4,-0.85
  region: 0.6,-0.85 0.45,-0.85 0.45,-0.9 0.6,-0.9
  region: 0.6,-0.7 0.6,-0.85 0.65,-0.85 0.65,-0.7
  rectangle: 0.45,-0.7 0.6,-0.65
  region: 0.6,-0.7 0.45,-0.7 0.45,-0.85 0.6,-0.85
  rectangle: -0.6,-0.7 -0.45,-0.65
  region: -0.6,-0.85 -0.6,-0.7 -0.65,-0.7 -0.65,-0.85
  region: -0.45,-0.85 -0.6,-0.85 -0.6,-0.9 -0.45,-0.9
  region: -0.45,-0.7 -0.45,-0.85 -0.4,-0.85 -0.4,-0.7
  region: -0.45,-0.85 -0.45,-0.7 -0.6,-0.7 -0.6,-0.85
  region: -0.075,0.85 -0.075,0.7 0.075,0.7 0.075,0.85
  region: -0.075,0.7 -0.075,0.85 -0.125,0.85 -0.125,0.7
  rectangle: -0.075,0.85 0.075,0.9
  region: 0.075,0.85 0.075,0.7 0.125,0.7 0.125,0.85
  region: 0.075,0.7 -0.075,0.7 -0.075,0.65 0.075,0.65
  rectangle: -0.6,0.175 -0.45,0.325
  region: -0.45,0.175 -0.6,0.175 -0.6,0.125 -0.45,0.125
  region: -0.6,0.175 -0.6,0.325 -0.65,0.325 -0.65,0.175
  rectangle: -0.6,0.325 -0.45,0.375
  region: -0.45,0.325 -0.45,0.175 -0.4,0.175 -0.4,0.325
  rectangle: -0.6,-0.325 -0.45,-0.175
  region: -0.45,-0.325 -0.6,-0.325 -0.6,-0.375 -0.45,-0.375
  region: -0.6,-0.325 -0.6,-0.175 -0.65,-0.175 -0.65,-0.325
  rectangle: -0.6,-0.175 -0.45,-0.125
  region: -0.45,-0.175 -0.45,-0.325 -0.4,-0.325 -0.4,-0.175
  region: 0.075,-0.85 0.075,-0.7 -0.075,-0.7 -0.075,-0.85
  region: 0.075,-0.7 0.075,-0.85 0.125,-0.85 0.125,-0.7
  region: 0.075,-0.85 -0.075,-0.85 -0.075,-0.9 0.075,-0.9
  region: -0.075,-0.85 -0.075,-0.7 -0.125,-0.7 -0.125,-0.85
  rectangle: -0.075,-0.7 0.075,-0.65
  region: 0.6,-0.175 0.45,-0.175 0.45,-0.325 0.6,-0.325
  rectangle: 0.45,-0.175 0.6,-0.125
  region: 0.6,-0.175 0.6,-0.325 0.65,-0.325 0.65,-0.175
  region: 0.6,-0.325 0.45,-0.325 0.45,-0.375 0.6,-0.375
  region: 0.45,-0.325 0.45,-0.175 0.4,-0.175 0.4,-0.325
  region: 0.6,0.325 0.45,0.325 0.45,0.175 0.6,0.175
  rectangle: 0.45,0.325 0.6,0.375
  region: 0.6,0.325 0.6,0.175 0.65,0.175 0.65,0.325
  region: 0.6,0.175 0.45,0.175 0.45,0.125 0.6,0.125
  region: 0.45,0.175 0.45,0.325 0.4,0.325 0.4,0.175
  region: -0.075,0.325 -0.075,0.175 0.075,0.175 0.075,0.325
  region: 0.125,0.175 0.125,0.325 0.075,0.325 0.075,0.175
  region: 0.075,0.375 -0.075,0.375 -0.075,0.325 0.075,0.325
  region: -0.125,0.325 -0.125,0.175 -0.075,0.175 -0.075,0.325
  rectangle: -0.075,0.125 0.075,0.175
  region: -0.075,-0.175 -0.075,-0.325 0.075,-0.325 0.075,-0.175
  region: 0.125,-0.325 0.125,-0.175 0.075,-0.175 0.075,-0.325
  region: 0.075,-0.125 -0.075,-0.125 -0.075,-0.175 0.075,-0.175
  region: -0.125,-0.175 -0.125,-0.325 -0.075,-0.325 -0.075,-0.175
  rectangle: -0.075,-0.375 0.075,-0.325
Mechanical 13:
  lines w0.1: -0.735,-0.985 0.735,-0.985 0.735,0.985 -0.735,0.985 -0.735,-0.985
Mechanical 15:
  lines w0.1: -0.5,0 0.5,0 ; 0,-0.5 0,0.5 ; -0.835,-1.085 0.835,-1.085 0.835,1.085 -0.835,1.085 -0.835,-1.085
3D body: height 0.68, standoff 0, extent -0.734,-0.984 0.734,0.984

## TLA16ACA [mm] "Micro SMD, 16-Leads, Body 2.05x2.0mm, Pitch 0.5mm, NSC Recommended"
height 0.68
pads (16):
  round 0.265 smd paste-0.132 mask+0.05: A1(-0.75,0.75) A2(-0.25,0.75) A3(0.25,0.75) A4(0.75,0.75) B1(-0.75,0.25) B2(-0.25,0.25) B3(0.25,0.25) B4(0.75,0.25) C1(-0.75,-0.25) C2(-0.25,-0.25) C3(0.25,-0.25) C4(0.75,-0.25) D1(-0.75,-0.75) D2(-0.25,-0.75) D3(0.25,-0.75) D4(0.75,-0.75)
Top Overlay:
  circle w0.1: c-1.105,1.13 r0.05
Top Paste:
  circle w0.05: c-0.7,-0.85 r0.025
  circle w0.05: c-0.85,-0.7 r0.025
  circle w0.05: c-0.85,-0.85 r0.025
  circle w0.05: c-0.7,-0.7 r0.025
  circle w0.05: c-0.85,0.7 r0.025
  circle w0.05: c-0.7,0.85 r0.025
  circle w0.05: c-0.85,0.85 r0.025
  circle w0.05: c-0.7,0.7 r0.025
  circle w0.05: c0.7,0.85 r0.025
  circle w0.05: c0.85,0.7 r0.025
  circle w0.05: c0.85,0.85 r0.025
  circle w0.05: c0.7,0.7 r0.025
  circle w0.05: c0.85,-0.7 r0.025
  circle w0.05: c0.7,-0.85 r0.025
  circle w0.05: c0.85,-0.85 r0.025
  circle w0.05: c0.7,-0.7 r0.025
  circle w0.05: c-0.7,0.175 r0.025
  circle w0.05: c-0.85,0.325 r0.025
  circle w0.05: c-0.7,0.325 r0.025
  circle w0.05: c-0.85,0.175 r0.025
  circle w0.05: c-0.7,-0.325 r0.025
  circle w0.05: c-0.85,-0.175 r0.025
  circle w0.05: c-0.7,-0.175 r0.025
  circle w0.05: c-0.85,-0.325 r0.025
  circle w0.05: c-0.175,-0.7 r0.025
  circle w0.05: c-0.325,-0.85 r0.025
  circle w0.05: c-0.325,-0.7 r0.025
  circle w0.05: c-0.175,-0.85 r0.025
  circle w0.05: c0.325,-0.7 r0.025
  circle w0.05: c0.175,-0.85 r0.025
  circle w0.05: c0.175,-0.7 r0.025
  circle w0.05: c0.325,-0.85 r0.025
  circle w0.05: c0.7,-0.175 r0.025
  circle w0.05: c0.85,-0.325 r0.025
  circle w0.05: c0.7,-0.325 r0.025
  circle w0.05: c0.85,-0.175 r0.025
  circle w0.05: c0.7,0.325 r0.025
  circle w0.05: c0.85,0.175 r0.025
  circle w0.05: c0.7,0.175 r0.025
  circle w0.05: c0.85,0.325 r0.025
  circle w0.05: c0.175,0.7 r0.025
  circle w0.05: c0.325,0.85 r0.025
  circle w0.05: c0.325,0.7 r0.025
  circle w0.05: c0.175,0.85 r0.025
  circle w0.05: c-0.325,0.7 r0.025
  circle w0.05: c-0.175,0.85 r0.025
  circle w0.05: c-0.175,0.7 r0.025
  circle w0.05: c-0.325,0.85 r0.025
  circle w0.05: c-0.175,0.175 r0.025
  circle w0.05: c-0.325,0.325 r0.025
  circle w0.05: c-0.325,0.175 r0.025
  circle w0.05: c-0.175,0.325 r0.025
  circle w0.05: c-0.175,-0.325 r0.025
  circle w0.05: c-0.325,-0.175 r0.025
  circle w0.05: c-0.325,-0.325 r0.025
  circle w0.05: c-0.175,-0.175 r0.025
  circle w0.05: c0.325,-0.325 r0.025
  circle w0.05: c0.175,-0.175 r0.025
  circle w0.05: c0.175,-0.325 r0.025
  circle w0.05: c0.325,-0.175 r0.025
  circle w0.05: c0.325,0.175 r0.025
  circle w0.05: c0.175,0.325 r0.025
  circle w0.05: c0.175,0.175 r0.025
  circle w0.05: c0.325,0.325 r0.025
  rectangle: -0.85,-0.7 -0.7,-0.65
  region: -0.85,-0.85 -0.85,-0.7 -0.9,-0.7 -0.9,-0.85
  region: -0.7,-0.85 -0.85,-0.85 -0.85,-0.9 -0.7,-0.9
  region: -0.7,-0.7 -0.7,-0.85 -0.65,-0.85 -0.65,-0.7
  region: -0.7,-0.85 -0.7,-0.7 -0.85,-0.7 -0.85,-0.85
  region: -0.7,0.85 -0.7,0.7 -0.65,0.7 -0.65,0.85
  rectangle: -0.85,0.85 -0.7,0.9
  region: -0.85,0.7 -0.85,0.85 -0.9,0.85 -0.9,0.7
  region: -0.7,0.7 -0.85,0.7 -0.85,0.65 -0.7,0.65
  rectangle: -0.85,0.7 -0.7,0.85
  region: 0.85,0.7 0.7,0.7 0.7,0.65 0.85,0.65
  region: 0.85,0.85 0.85,0.7 0.9,0.7 0.9,0.85
  rectangle: 0.7,0.85 0.85,0.9
  region: 0.7,0.7 0.7,0.85 0.65,0.85 0.65,0.7
  region: 0.7,0.85 0.7,0.7 0.85,0.7 0.85,0.85
  region: 0.7,-0.85 0.7,-0.7 0.65,-0.7 0.65,-0.85
  region: 0.85,-0.85 0.7,-0.85 0.7,-0.9 0.85,-0.9
  region: 0.85,-0.7 0.85,-0.85 0.9,-0.85 0.9,-0.7
  rectangle: 0.7,-0.7 0.85,-0.65
  region: 0.85,-0.7 0.7,-0.7 0.7,-0.85 0.85,-0.85
  rectangle: -0.85,0.175 -0.7,0.325
  region: -0.7,0.175 -0.85,0.175 -0.85,0.125 -0.7,0.125
  region: -0.85,0.175 -0.85,0.325 -0.9,0.325 -0.9,0.175
  rectangle: -0.85,0.325 -0.7,0.375
  region: -0.7,0.325 -0.7,0.175 -0.65,0.175 -0.65,0.325
  rectangle: -0.85,-0.325 -0.7,-0.175
  region: -0.7,-0.325 -0.85,-0.325 -0.85,-0.375 -0.7,-0.375
  region: -0.85,-0.325 -0.85,-0.175 -0.9,-0.175 -0.9,-0.325
  rectangle: -0.85,-0.175 -0.7,-0.125
  region: -0.7,-0.175 -0.7,-0.325 -0.65,-0.325 -0.65,-0.175
  region: -0.175,-0.85 -0.175,-0.7 -0.325,-0.7 -0.325,-0.85
  region: -0.175,-0.7 -0.175,-0.85 -0.125,-0.85 -0.125,-0.7
  region: -0.175,-0.85 -0.325,-0.85 -0.325,-0.9 -0.175,-0.9
  region: -0.325,-0.85 -0.325,-0.7 -0.375,-0.7 -0.375,-0.85
  rectangle: -0.325,-0.7 -0.175,-0.65
  region: 0.325,-0.85 0.325,-0.7 0.175,-0.7 0.175,-0.85
  region: 0.325,-0.7 0.325,-0.85 0.375,-0.85 0.375,-0.7
  region: 0.325,-0.85 0.175,-0.85 0.175,-0.9 0.325,-0.9
  region: 0.175,-0.85 0.175,-0.7 0.125,-0.7 0.125,-0.85
  rectangle: 0.175,-0.7 0.325,-0.65
  region: 0.85,-0.175 0.7,-0.175 0.7,-0.325 0.85,-0.325
  rectangle: 0.7,-0.175 0.85,-0.125
  region: 0.85,-0.175 0.85,-0.325 0.9,-0.325 0.9,-0.175
  region: 0.85,-0.325 0.7,-0.325 0.7,-0.375 0.85,-0.375
  region: 0.7,-0.325 0.7,-0.175 0.65,-0.175 0.65,-0.325
  region: 0.85,0.325 0.7,0.325 0.7,0.175 0.85,0.175
  rectangle: 0.7,0.325 0.85,0.375
  region: 0.85,0.325 0.85,0.175 0.9,0.175 0.9,0.325
  region: 0.85,0.175 0.7,0.175 0.7,0.125 0.85,0.125
  region: 0.7,0.175 0.7,0.325 0.65,0.325 0.65,0.175
  region: 0.175,0.85 0.175,0.7 0.325,0.7 0.325,0.85
  region: 0.175,0.7 0.175,0.85 0.125,0.85 0.125,0.7
  rectangle: 0.175,0.85 0.325,0.9
  region: 0.325,0.85 0.325,0.7 0.375,0.7 0.375,0.85
  region: 0.325,0.7 0.175,0.7 0.175,0.65 0.325,0.65
  region: -0.325,0.85 -0.325,0.7 -0.175,0.7 -0.175,0.85
  region: -0.325,0.7 -0.325,0.85 -0.375,0.85 -0.375,0.7
  rectangle: -0.325,0.85 -0.175,0.9
  region: -0.175,0.85 -0.175,0.7 -0.125,0.7 -0.125,0.85
  region: -0.175,0.7 -0.325,0.7 -0.325,0.65 -0.175,0.65
  region: -0.325,0.325 -0.325,0.175 -0.175,0.175 -0.175,0.325
  region: -0.125,0.175 -0.125,0.325 -0.175,0.325 -0.175,0.175
  region: -0.175,0.375 -0.325,0.375 -0.325,0.325 -0.175,0.325
  region: -0.375,0.325 -0.375,0.175 -0.325,0.175 -0.325,0.325
  rectangle: -0.325,0.125 -0.175,0.175
  region: -0.325,-0.175 -0.325,-0.325 -0.175,-0.325 -0.175,-0.175
  region: -0.125,-0.325 -0.125,-0.175 -0.175,-0.175 -0.175,-0.325
  region: -0.175,-0.125 -0.325,-0.125 -0.325,-0.175 -0.175,-0.175
  region: -0.375,-0.175 -0.375,-0.325 -0.325,-0.325 -0.325,-0.175
  rectangle: -0.325,-0.375 -0.175,-0.325
  region: 0.175,-0.175 0.175,-0.325 0.325,-0.325 0.325,-0.175
  region: 0.375,-0.325 0.375,-0.175 0.325,-0.175 0.325,-0.325
  region: 0.325,-0.125 0.175,-0.125 0.175,-0.175 0.325,-0.175
  region: 0.125,-0.175 0.125,-0.325 0.175,-0.325 0.175,-0.175
  rectangle: 0.175,-0.375 0.325,-0.325
  region: 0.175,0.325 0.175,0.175 0.325,0.175 0.325,0.325
  region: 0.375,0.175 0.375,0.325 0.325,0.325 0.325,0.175
  region: 0.325,0.375 0.175,0.375 0.175,0.325 0.325,0.325
  region: 0.125,0.325 0.125,0.175 0.175,0.175 0.175,0.325
  rectangle: 0.175,0.125 0.325,0.175
Mechanical 13:
  lines w0.1: -1,-1.025 -1,1.025 1,1.025 1,-1.025 -1,-1.025
Mechanical 15:
  lines w0.1: -0.5,0 0.5,0 ; 0,-0.5 0,0.5 ; -1.1,-1.125 -1.1,1.125 1.1,1.125 1.1,-1.125 -1.1,-1.125
3D body: height 0.68, standoff 0, extent -0.999,-1.024 0.999,1.024